# EAGLE library part HV857 (library HV857)
The Supertex HV857 is a high voltage driver designed for driving Electroluminescent (EL) lamps of up to 5.0 square inches. The input supply voltage range is from 1.8 to 5.0V. The device uses a single inductor and a minimum number of passive components. The nominal regulated output voltage that is applied to the EL lamp is ±95V. The chip can be enabled/disabled by connecting the resistor on RSW-Osc to VDD/GND.
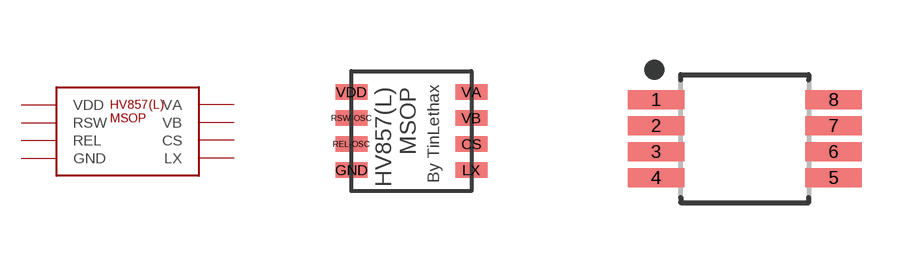
[diagram p0: symbol with the pads of 8-MSOP; footprints 8-MSOP, SOP65P490X110-8N]

Designator prefix -

## HV857 (PACKAGE: 8-Lead MSOP; PARTNO: HV857)  [8-MSOP]

## HV857HV857 (PACKAGE: 8-Lead MSOP; PARTNO: HV857)  [SOP65P490X110-8N]
1  VDD
2  RSW
3  REL
4  GND
5  LX
6  CS
7  VB
8  VA

## Footprint 8-MSOP (pad centres in mm)
8-Lead MSOP size
smd 0.8 x 0.38: CS 1.5,-0.325; GND -1.5,-0.975; LX 1.5,-0.975; REL-OSC -1.5,-0.325; RSW-OSC -1.5,0.325; VA 1.5,0.975; VB 1.5,0.325; VDD -1.5,0.975

## Footprint SOP65P490X110-8N (pad centres in mm)
8-SOP, 0.65 mm pitch, 4.90 mm span, 3.00 X 3.00 X 1.10 mm body 8-pin SOP package with 0.65 mm pitch, 4.90 mm span with body size 3.00 X 3.00 X 1.10 mm
smd 1.424 x 0.475: 1 -2.219,0.975; 2 -2.219,0.325; 3 -2.219,-0.325; 4 -2.219,-0.975; 5 2.219,-0.975; 6 2.219,-0.325; 7 2.219,0.325; 8 2.219,0.975